# Altium footprint library CAPPRD750W80D1600H2150.PcbLib: 1 footprints
Each footprint in its own frame and in the unit in brackets; x right, y up, seen from the top. Pads: shape width x height; smd on the part's side, far side on the other; paste and mask are expansions set on the pad; w line width, h text height; cw(c..) or ccw(c..) is an arc to the next point about the centre after c.
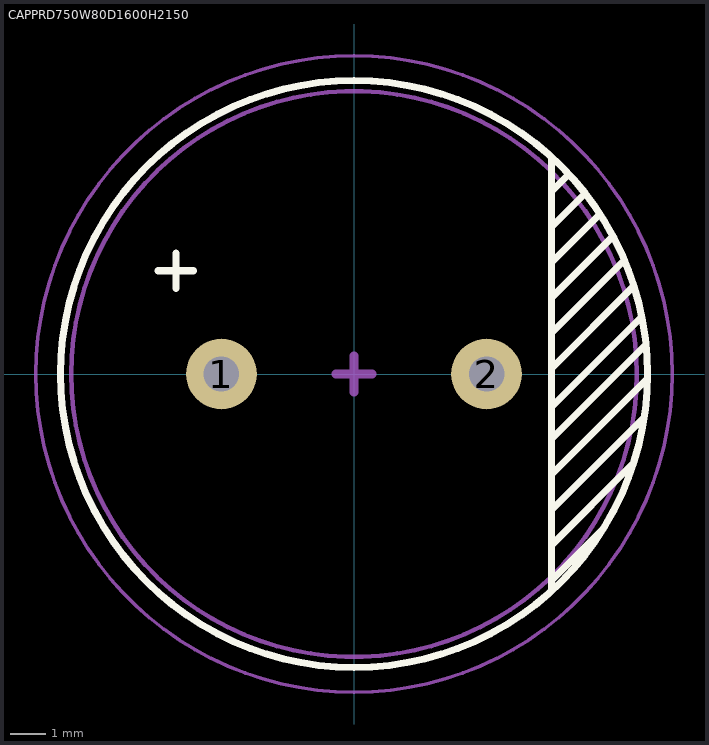
[diagram p0: the footprint, top view; thin cyan lines are the x and y axes]

## CAPPRD750W80D1600H2150 [mm] "Capacitor Polarized, Radial Diameter Vertical Mounting"
pads (2):
  round 2 hole 1: 1(-3.75,0)
  round 2 hole 1 mask+0.102: 2(3.75,0)
Top Overlay:
  circle w0.2: c0,0 r8.3
  lines w0.2: -5.54,2.921 -4.54,2.921 ; -5.04,2.421 -5.04,3.421 ; 5.582,-6.112 5.582,6.088 ; 5.582,-5.842 6.996,-4.428 ; 5.582,-4.842 7.88,-2.544 ; 5.582,-3.842 8.198,-1.226 ; 5.582,-2.842 8.269,-0.155 ; 5.582,-1.842 8.234,0.81 ; 5.582,-0.937 8.08,1.56 ; 5.582,0.158 7.907,2.483 ; 5.582,1.158 7.633,3.209 ; 5.582,2.158 7.279,3.855 ; 5.582,3.158 6.926,4.502 ; 5.582,4.158 6.501,5.077 ; 5.582,5.158 6.006,5.582
Top Assembly:
  circle w0.127: c0,0 r8
Top Courtyard:
  circle w0.1: c0,0 r9
  lines w0.254: -0.508,0 0.508,0 ; 0,-0.508 0,0.508
3D body "User Library-CAPAER_D160_L215_P075_W008X030.STEP": height 21.71, standoff -2.8, extent -8,-8 8.01,8